# Altium integrated library SD7-4-B.IntLib: 1 symbol
Pins are listed as number, name and electrical type; pins without a type are passive.

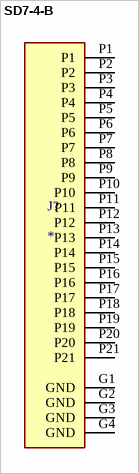
[diagram p0: symbol SD7-4-B]

## SD7-4-B
designator J?
21 (18 + 3) Position Card Connector Secure Digital - SD Surface Mount, Right Angle Gold; MF: Same Sky (Formerly CUI Devices); MP: SD7-4-B; SnapEDA_Link: https://www.snapeda.com/parts/SD7-4-B/Same+Sky/view-part/?ref=snap; Package: None; Value: *; Check_prices: https://www.snapeda.com/parts/SD7-4-B/Same+Sky/view-part/?ref=eda
footprint SAMESKY_SD7-4-B
pins: G1 GND (power), G2 GND (power), G3 GND (power), G4 GND (power), P1, P2, P3, P4, P5, P6, P7, P8, P9, P10, P11, P12, P13, P14, P15, P16, P17, P18, P19, P20, P21